# Altium footprint library 691 701 350 0xx B.PcbLib: 11 footprints
Each footprint in its own frame and in the unit in brackets; x right, y up, seen from the top. Pads: shape width x height; smd on the part's side, far side on the other; paste and mask are expansions set on the pad; w line width, h text height; cw(c..) or ccw(c..) is an arc to the next point about the centre after c.
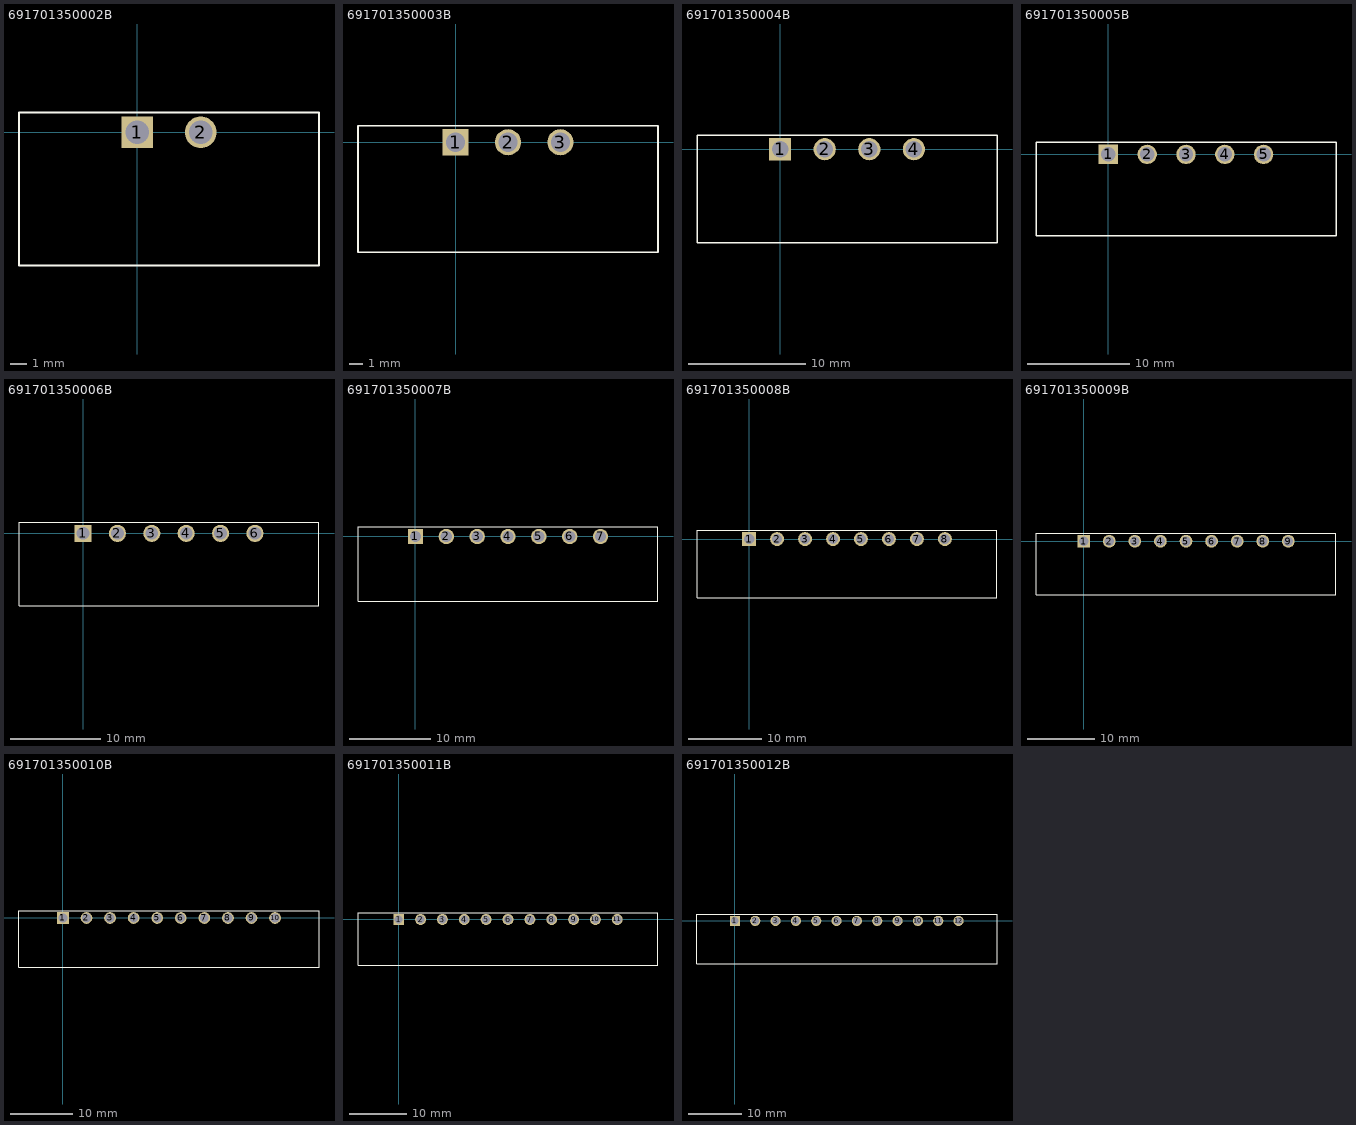
[diagram p0: the footprints below, top view; thin cyan lines are the x and y axes]

## 691701350002B [mm] "THR - 3,81mm - PCB Horizontal Flange - 02p"
height 7.3
pads (2):
  rect 1.9x1.9 hole 1.4: 1(0,0)
  round 1.9 hole 1.4: 2(3.81,0)
Top Overlay:
  lines w0.127: -7.1,-8 -7.1,1.2 ; -7.1,-8 10.91,-8 ; -7.1,-8 10.91,-8 ; -7.1,-8 -7.1,1.2 ; -7.1,1.2 10.91,1.2 ; -7.1,1.2 10.91,1.2 ; 10.91,-8 10.91,1.2 ; 10.91,-8 10.91,1.2
3D body: height 7.31, standoff -2.59, extent -7.1,-8 10.91,1.2

## 691701350003B [mm] "THR - 3,81mm - PCB Horizontal Flange - 03p"
height 7.3
pads (3):
  rect 1.9x1.9 hole 1.4: 1(0,0)
  round 1.9 hole 1.4: 2(3.81,0) 3(7.62,0)
Top Overlay:
  lines w0.127: -7.1,-8 -7.1,1.2 ; -7.1,-8 14.72,-8 ; -7.1,-8 14.72,-8 ; -7.1,-8 -7.1,1.2 ; -7.1,1.2 14.72,1.2 ; -7.1,1.2 14.72,1.2 ; 14.72,-8 14.72,1.2 ; 14.72,-8 14.72,1.2
3D body: height 7.31, standoff -2.59, extent -7.1,-8 14.72,1.2

## 691701350004B [mm] "THR - 3,81mm - PCB Horizontal Flange - 04p"
height 7.3
pads (4):
  rect 1.9x1.9 hole 1.4: 1(0,0)
  round 1.9 hole 1.4: 2(3.81,0) 3(7.62,0) 4(11.43,0)
Top Overlay:
  lines w0.127: -7.1,-8 -7.1,1.2 ; -7.1,-8 18.53,-8 ; -7.1,-8 18.53,-8 ; -7.1,-8 -7.1,1.2 ; -7.1,1.2 18.53,1.2 ; -7.1,1.2 18.53,1.2 ; 18.53,-8 18.53,1.2 ; 18.53,-8 18.53,1.2
3D body: height 7.31, standoff -2.59, extent -7.1,-8 18.53,1.2

## 691701350005B [mm] "THR - 3,81mm - PCB Horizontal Flange - 05p"
height 7.3
pads (5):
  rect 1.9x1.9 hole 1.4: 1(0,0)
  round 1.9 hole 1.4: 2(3.81,0) 3(7.62,0) 4(11.43,0) 5(15.24,0)
Top Overlay:
  lines w0.127: -7.1,-8 -7.1,1.2 ; -7.1,-8 22.34,-8 ; -7.1,-8 22.34,-8 ; -7.1,-8 -7.1,1.2 ; -7.1,1.2 22.34,1.2 ; -7.1,1.2 22.34,1.2 ; 22.34,-8 22.34,1.2 ; 22.34,-8 22.34,1.2
3D body: height 7.31, standoff -2.59, extent -7.1,-8 22.34,1.2

## 691701350006B [mm] "THR - 3,81mm - PCB Horizontal Flange - 06p"
height 7.3
pads (6):
  rect 1.9x1.9 hole 1.4: 1(0,0)
  round 1.9 hole 1.4: 2(3.81,0) 3(7.62,0) 4(11.43,0) 5(15.24,0) 6(19.05,0)
Top Overlay:
  lines w0.127: -7.1,-8 -7.1,1.2 ; -7.1,-8 26.15,-8 ; -7.1,-8 26.15,-8 ; -7.1,-8 -7.1,1.2 ; -7.1,1.2 26.15,1.2 ; -7.1,1.2 26.15,1.2 ; 26.15,-8 26.15,1.2 ; 26.15,-8 26.15,1.2
3D body: height 7.31, standoff -2.59, extent -7.1,-8 26.15,1.2

## 691701350007B [mm] "THR - 3,81mm - PCB Horizontal Flange - 07p"
height 7.3
pads (7):
  rect 1.9x1.9 hole 1.4: 1(0,0)
  round 1.9 hole 1.4: 2(3.81,0) 3(7.62,0) 4(11.43,0) 5(15.24,0) 6(19.05,0) 7(22.86,0)
Top Overlay:
  lines w0.127: -7.1,-8 -7.1,1.2 ; -7.1,-8 29.96,-8 ; -7.1,-8 29.96,-8 ; -7.1,-8 -7.1,1.2 ; -7.1,1.2 29.96,1.2 ; -7.1,1.2 29.96,1.2 ; 29.96,-8 29.96,1.2 ; 29.96,-8 29.96,1.2
3D body: height 7.31, standoff -2.59, extent -7.1,-8 29.96,1.2

## 691701350008B [mm] "THR - 3,81mm - PCB Horizontal Flange - 08p"
height 7.3
pads (8):
  rect 1.9x1.9 hole 1.4: 1(0,0)
  round 1.9 hole 1.4: 2(3.81,0) 3(7.62,0) 4(11.43,0) 5(15.24,0) 6(19.05,0) 7(22.86,0) 8(26.67,0)
Top Overlay:
  lines w0.127: -7.1,-8 -7.1,1.2 ; -7.1,-8 33.77,-8 ; -7.1,-8 33.77,-8 ; -7.1,-8 -7.1,1.2 ; -7.1,1.2 33.77,1.2 ; -7.1,1.2 33.77,1.2 ; 33.77,-8 33.77,1.2 ; 33.77,-8 33.77,1.2
3D body: height 7.31, standoff -2.59, extent -7.1,-8 33.77,1.2

## 691701350009B [mm] "THR - 3,81mm - PCB Horizontal Flange - 09p"
height 7.3
pads (9):
  rect 1.9x1.9 hole 1.4: 1(0,0)
  round 1.9 hole 1.4: 2(3.81,0) 3(7.62,0) 4(11.43,0) 5(15.24,0) 6(19.05,0) 7(22.86,0) 8(26.67,0) 9(30.48,0)
Top Overlay:
  lines w0.127: -7.1,-8 -7.1,1.2 ; -7.1,-8 37.58,-8 ; -7.1,-8 37.58,-8 ; -7.1,-8 -7.1,1.2 ; -7.1,1.2 37.58,1.2 ; -7.1,1.2 37.58,1.2 ; 37.58,-8 37.58,1.2 ; 37.58,-8 37.58,1.2
3D body: height 7.31, standoff -2.59, extent -7.1,-8 37.58,1.2

## 691701350010B [mm] "THR - 3,81mm - PCB Horizontal Flange - 10p"
height 7.3
pads (10):
  rect 1.9x1.9 hole 1.4: 1(0,0)
  round 1.9 hole 1.4: 2(3.81,0) 3(7.62,0) 4(11.43,0) 5(15.24,0) 6(19.05,0) 7(22.86,0) 8(26.67,0) 9(30.48,0) 10(34.29,0)
Top Overlay:
  lines w0.127: -7.1,-8 -7.1,1.2 ; -7.1,-8 41.39,-8 ; -7.1,-8 41.39,-8 ; -7.1,-8 -7.1,1.2 ; -7.1,1.2 41.39,1.2 ; -7.1,1.2 41.39,1.2 ; 41.39,-8 41.39,1.2 ; 41.39,-8 41.39,1.2
3D body: height 7.31, standoff -2.59, extent -7.1,-8 41.39,1.2

## 691701350011B [mm] "THR - 3,81mm - PCB Horizontal Flange - 11p"
height 7.3
pads (11):
  rect 1.9x1.9 hole 1.4: 1(0,0)
  round 1.9 hole 1.4: 2(3.81,0) 3(7.62,0) 4(11.43,0) 5(15.24,0) 6(19.05,0) 7(22.86,0) 8(26.67,0) 9(30.48,0) 10(34.29,0) 11(38.1,0)
Top Overlay:
  lines w0.127: -7.1,-8 -7.1,1.2 ; -7.1,-8 45.2,-8 ; -7.1,-8 45.2,-8 ; -7.1,-8 -7.1,1.2 ; -7.1,1.2 45.2,1.2 ; -7.1,1.2 45.2,1.2 ; 45.2,-8 45.2,1.2 ; 45.2,-8 45.2,1.2
3D body: height 7.31, standoff -2.59, extent -7.1,-8 45.2,1.2

## 691701350012B [mm] "THR - 3,81mm - PCB Horizontal Flange - 12p"
height 7.3
pads (12):
  rect 1.9x1.9 hole 1.4: 1(0,0)
  round 1.9 hole 1.4: 2(3.81,0) 3(7.62,0) 4(11.43,0) 5(15.24,0) 6(19.05,0) 7(22.86,0) 8(26.67,0) 9(30.48,0) 10(34.29,0) 11(38.1,0) 12(41.91,0)
Top Overlay:
  lines w0.127: -7.1,-8 -7.1,1.2 ; -7.1,-8 49.11,-8 ; -7.1,-8 49.11,-8 ; -7.1,-8 -7.1,1.2 ; -7.1,1.2 49.11,1.2 ; -7.1,1.2 49.11,1.2 ; 49.11,-8 49.11,1.2 ; 49.11,-8 49.11,1.2
3D body: height 7.31, standoff -2.59, extent -7.1,-8 49.01,1.2